# EAGLE library part XC3S{50,100,200}A-FT256 (library kmod-xilinx)
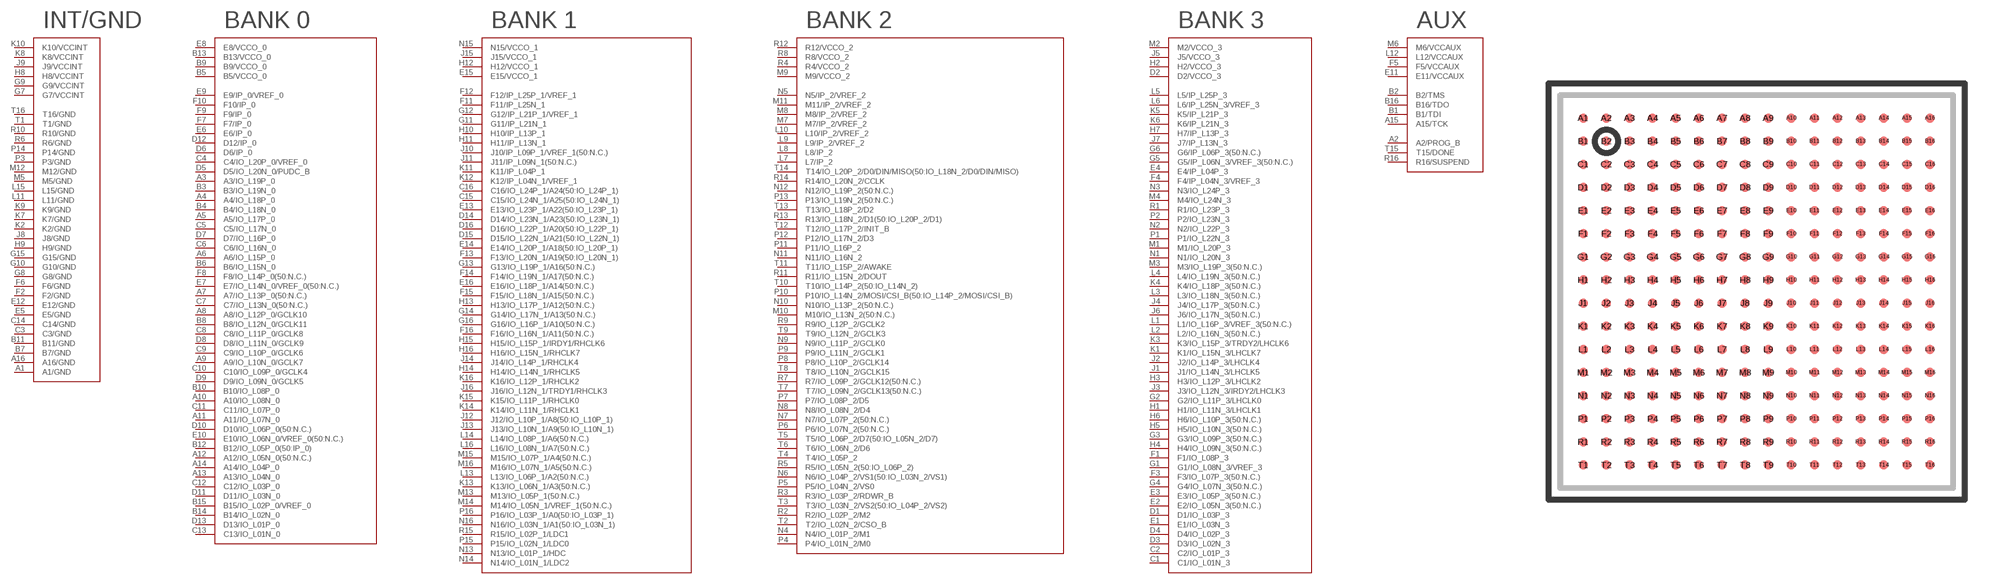
[diagram p4: symbol with the pads of XILINX_FT256; footprint XILINX_FT256]

Designator prefix -

## XC3S{50,100,200}A-FT256  [XILINX_FT256]
A1  A1/GND
A2  A2/PROG_B
A3  A3/IO_L19P_0
A4  A4/IO_L18P_0
A5  A5/IO_L17P_0
A6  A6/IO_L15P_0
A7  A7/IO_L13P_0(50:N.C.)
A8  A8/IO_L12P_0/GCLK10
A9  A9/IO_L10N_0/GCLK7
A10  A10/IO_L08N_0
A11  A11/IO_L07N_0
A12  A12/IO_L05N_0(50:N.C.)
A13  A13/IO_L04N_0
A14  A14/IO_L04P_0
A15  A15/TCK
A16  A16/GND
B1  B1/TDI
B2  B2/TMS
B3  B3/IO_L19N_0
B4  B4/IO_L18N_0
B5  B5/VCCO_0
B6  B6/IO_L15N_0
B7  B7/GND
B8  B8/IO_L12N_0/GCLK11
B9  B9/VCCO_0
B10  B10/IO_L08P_0
B11  B11/GND
B12  B12/IO_L05P_0(50:IP_0)
B13  B13/VCCO_0
B14  B14/IO_L02N_0
B15  B15/IO_L02P_0/VREF_0
B16  B16/TDO
C1  C1/IO_L01N_3
C2  C2/IO_L01P_3
C3  C3/GND
C4  C4/IO_L20P_0/VREF_0
C5  C5/IO_L17N_0
C6  C6/IO_L16N_0
C7  C7/IO_L13N_0(50:N.C.)
C8  C8/IO_L11P_0/GCLK8
C9  C9/IO_L10P_0/GCLK6
C10  C10/IO_L09P_0/GCLK4
C11  C11/IO_L07P_0
C12  C12/IO_L03P_0
C13  C13/IO_L01N_0
C14  C14/GND
C15  C15/IO_L24N_1/A25(50:IO_L24N_1)
C16  C16/IO_L24P_1/A24(50:IO_L24P_1)
D1  D1/IO_L03P_3
D2  D2/VCCO_3
D3  D3/IO_L02N_3
D4  D4/IO_L02P_3
D5  D5/IO_L20N_0/PUDC_B
D6  D6/IP_0
D7  D7/IO_L16P_0
D8  D8/IO_L11N_0/GCLK9
D9  D9/IO_L09N_0/GCLK5
D10  D10/IO_L06P_0(50:N.C.)
D11  D11/IO_L03N_0
D12  D12/IP_0
D13  D13/IO_L01P_0
D14  D14/IO_L23N_1/A23(50:IO_L23N_1)
D15  D15/IO_L22N_1/A21(50:IO_L22N_1)
D16  D16/IO_L22P_1/A20(50:IO_L22P_1)
E1  E1/IO_L03N_3
E2  E2/IO_L05N_3(50:N.C.)
E3  E3/IO_L05P_3(50:N.C.)
E4  E4/IP_L04P_3
E5  E5/GND
E6  E6/IP_0
E7  E7/IO_L14N_0/VREF_0(50:N.C.)
E8  E8/VCCO_0
E9  E9/IP_0/VREF_0
E10  E10/IO_L06N_0/VREF_0(50:N.C.)
E11  E11/VCCAUX
E12  E12/GND
E13  E13/IO_L23P_1/A22(50:IO_L23P_1)
E14  E14/IO_L20P_1/A18(50:IO_L20P_1)
E15  E15/VCCO_1
E16  E16/IO_L18P_1/A14(50:N.C.)
F1  F1/IO_L08P_3
F2  F2/GND
F3  F3/IO_L07P_3(50:N.C.)
F4  F4/IP_L04N_3/VREF_3
F5  F5/VCCAUX
F6  F6/GND
F7  F7/IP_0
F8  F8/IO_L14P_0(50:N.C.)
F9  F9/IP_0
F10  F10/IP_0
F11  F11/IP_L25N_1
F12  F12/IP_L25P_1/VREF_1
F13  F13/IO_L20N_1/A19(50:IO_L20N_1)
F14  F14/IO_L19N_1/A17(50:N.C.)
F15  F15/IO_L18N_1/A15(50:N.C.)
F16  F16/IO_L16N_1/A11(50:N.C.)
G1  G1/IO_L08N_3/VREF_3
G2  G2/IO_L11P_3/LHCLK0
G3  G3/IO_L09P_3(50:N.C.)
G4  G4/IO_L07N_3(50:N.C.)
G5  G5/IP_L06N_3/VREF_3(50:N.C.)
G6  G6/IP_L06P_3(50:N.C.)
G7  G7/VCCINT
G8  G8/GND
G9  G9/VCCINT
G10  G10/GND
G11  G11/IP_L21N_1
G12  G12/IP_L21P_1/VREF_1
G13  G13/IO_L19P_1/A16(50:N.C.)
G14  G14/IO_L17N_1/A13(50:N.C.)
G15  G15/GND
G16  G16/IO_L16P_1/A10(50:N.C.)
H1  H1/IO_L11N_3/LHCLK1
H2  H2/VCCO_3
H3  H3/IO_L12P_3/LHCLK2
H4  H4/IO_L09N_3(50:N.C.)
H5  H5/IO_L10N_3(50:N.C.)
H6  H6/IO_L10P_3(50:N.C.)
H7  H7/IP_L13P_3
H8  H8/VCCINT
H9  H9/GND
H10  H10/IP_L13P_1
H11  H11/IP_L13N_1
H12  H12/VCCO_1
H13  H13/IO_L17P_1/A12(50:N.C.)
H14  H14/IO_L14N_1/RHCLK5
H15  H15/IO_L15P_1/IRDY1/RHCLK6
H16  H16/IO_L15N_1/RHCLK7
J1  J1/IO_L14N_3/LHCLK5
J2  J2/IO_L14P_3/LHCLK4
J3  J3/IO_L12N_3/IRDY2/LHCLK3
J4  J4/IO_L17P_3(50:N.C.)
J5  J5/VCCO_3
J6  J6/IO_L17N_3(50:N.C.)
J7  J7/IP_L13N_3
J8  J8/GND
J9  J9/VCCINT
J10  J10/IP_L09P_1/VREF_1(50:N.C.)
J11  J11/IP_L09N_1(50:N.C.)
J12  J12/IO_L10P_1/A8(50:IO_L10P_1)
J13  J13/IO_L10N_1/A9(50:IO_L10N_1)
J14  J14/IO_L14P_1/RHCLK4
J15  J15/VCCO_1
J16  J16/IO_L12N_1/TRDY1/RHCLK3
K1  K1/IO_L15N_3/LHCLK7
K2  K2/GND
K3  K3/IO_L15P_3/TRDY2/LHCLK6
K4  K4/IO_L18P_3(50:N.C.)
K5  K5/IP_L21P_3
K6  K6/IP_L21N_3
K7  K7/GND
K8  K8/VCCINT
K9  K9/GND
K10  K10/VCCINT
K11  K11/IP_L04P_1
K12  K12/IP_L04N_1/VREF_1
K13  K13/IO_L06N_1/A3(50:N.C.)
K14  K14/IO_L11N_1/RHCLK1
K15  K15/IO_L11P_1/RHCLK0
K16  K16/IO_L12P_1/RHCLK2
L1  L1/IO_L16P_3/VREF_3(50:N.C.)
L2  L2/IO_L16N_3(50:N.C.)
L3  L3/IO_L18N_3(50:N.C.)
L4  L4/IO_L19N_3(50:N.C.)
L5  L5/IP_L25P_3
L6  L6/IP_L25N_3/VREF_3
L7  L7/IP_2
L8  L8/IP_2
L9  L9/IP_2/VREF_2
L10  L10/IP_2/VREF_2
L11  L11/GND
L12  L12/VCCAUX
L13  L13/IO_L06P_1/A2(50:N.C.)
L14  L14/IO_L08P_1/A6(50:N.C.)
L15  L15/GND
L16  L16/IO_L08N_1/A7(50:N.C.)
M1  M1/IO_L20P_3
M2  M2/VCCO_3
M3  M3/IO_L19P_3(50:N.C.)
M4  M4/IO_L24N_3
M5  M5/GND
M6  M6/VCCAUX
M7  M7/IP_2/VREF_2
M8  M8/IP_2/VREF_2
M9  M9/VCCO_2
M10  M10/IO_L13N_2(50:N.C.)
M11  M11/IP_2/VREF_2
M12  M12/GND
M13  M13/IO_L05P_1(50:N.C.)
M14  M14/IO_L05N_1/VREF_1(50:N.C.)
M15  M15/IO_L07P_1/A4(50:N.C.)
M16  M16/IO_L07N_1/A5(50:N.C.)
N1  N1/IO_L20N_3
N2  N2/IO_L22P_3
N3  N3/IO_L24P_3
N4  N4/IO_L01P_2/M1
N5  N5/IP_2/VREF_2
N6  N6/IO_L04P_2/VS1(50:IO_L03N_2/VS1)
N7  N7/IO_L07P_2(50:N.C.)
N8  N8/IO_L08N_2/D4
N9  N9/IO_L11P_2/GCLK0
N10  N10/IO_L13P_2(50:N.C.)
N11  N11/IO_L16N_2
N12  N12/IO_L19P_2(50:N.C.)
N13  N13/IO_L01P_1/HDC
N14  N14/IO_L01N_1/LDC2
N15  N15/VCCO_1
N16  N16/IO_L03N_1/A1(50:IO_L03N_1)
P1  P1/IO_L22N_3
P2  P2/IO_L23N_3
P3  P3/GND
P4  P4/IO_L01N_2/M0
P5  P5/IO_L04N_2/VS0
P6  P6/IO_L07N_2(50:N.C.)
P7  P7/IO_L08P_2/D5
P8  P8/IO_L10P_2/GCLK14
P9  P9/IO_L11N_2/GCLK1
P10  P10/IO_L14N_2/MOSI/CSI_B(50:IO_L14P_2/MOSI/CSI_B)
P11  P11/IO_L16P_2
P12  P12/IO_L17N_2/D3
P13  P13/IO_L19N_2(50:N.C.)
P14  P14/GND
P15  P15/IO_L02N_1/LDC0
P16  P16/IO_L03P_1/A0(50:IO_L03P_1)
R1  R1/IO_L23P_3
R2  R2/IO_L02P_2/M2
R3  R3/IO_L03P_2/RDWR_B
R4  R4/VCCO_2
R5  R5/IO_L05N_2(50:IO_L06P_2)
R6  R6/GND
R7  R7/IO_L09P_2/GCLK12(50:N.C.)
R8  R8/VCCO_2
R9  R9/IO_L12P_2/GCLK2
R10  R10/GND
R11  R11/IO_L15N_2/DOUT
R12  R12/VCCO_2
R13  R13/IO_L18N_2/D1(50:IO_L20P_2/D1)
R14  R14/IO_L20N_2/CCLK
R15  R15/IO_L02P_1/LDC1
R16  R16/SUSPEND
T1  T1/GND
T2  T2/IO_L02N_2/CSO_B
T3  T3/IO_L03N_2/VS2(50:IO_L04P_2/VS2)
T4  T4/IO_L05P_2
T5  T5/IO_L06P_2/D7(50:IO_L05N_2/D7)
T6  T6/IO_L06N_2/D6
T7  T7/IO_L09N_2/GCLK13(50:N.C.)
T8  T8/IO_L10N_2/GCLK15
T9  T9/IO_L12N_2/GCLK3
T10  T10/IO_L14P_2(50:IO_L14N_2)
T11  T11/IO_L15P_2/AWAKE
T12  T12/IO_L17P_2/INIT_B
T13  T13/IO_L18P_2/D2
T14  T14/IO_L20P_2/D0/DIN/MISO(50:IO_L18N_2/D0/DIN/MISO)
T15  T15/DONE
T16  T16/GND

## Footprint XILINX_FT256 (pad centres in mm)
Xilinx 1.0mm-pitch 256-pin BGA From here <http://www.xilinx.com/support/documentation/user_guides/ug112.pdf#page=88>
smd 0.4 x 0.4: A1 -7.5,7.5; A2 -6.5,7.5; A3 -5.5,7.5; A4 -4.5,7.5; A5 -3.5,7.5; A6 -2.5,7.5; A7 -1.5,7.5; A8 -0.5,7.5; A9 0.5,7.5; A10 1.5,7.5; A11 2.5,7.5; A12 3.5,7.5; A13 4.5,7.5; A14 5.5,7.5; A15 6.5,7.5; A16 7.5,7.5; B1 -7.5,6.5; B2 -6.5,6.5; B3 -5.5,6.5; B4 -4.5,6.5; B5 -3.5,6.5; B6 -2.5,6.5; B7 -1.5,6.5; B8 -0.5,6.5; B9 0.5,6.5; B10 1.5,6.5; B11 2.5,6.5; B12 3.5,6.5; B13 4.5,6.5; B14 5.5,6.5; B15 6.5,6.5; B16 7.5,6.5; C1 -7.5,5.5; C2 -6.5,5.5; C3 -5.5,5.5; C4 -4.5,5.5; C5 -3.5,5.5; C6 -2.5,5.5; C7 -1.5,5.5; C8 -0.5,5.5; C9 0.5,5.5; C10 1.5,5.5; C11 2.5,5.5; C12 3.5,5.5; C13 4.5,5.5; C14 5.5,5.5; C15 6.5,5.5; C16 7.5,5.5; D1 -7.5,4.5; D2 -6.5,4.5; D3 -5.5,4.5; D4 -4.5,4.5; D5 -3.5,4.5; D6 -2.5,4.5; D7 -1.5,4.5; D8 -0.5,4.5; D9 0.5,4.5; D10 1.5,4.5; D11 2.5,4.5; D12 3.5,4.5; D13 4.5,4.5; D14 5.5,4.5; D15 6.5,4.5; D16 7.5,4.5; E1 -7.5,3.5; E2 -6.5,3.5; E3 -5.5,3.5; E4 -4.5,3.5; E5 -3.5,3.5; E6 -2.5,3.5; E7 -1.5,3.5; E8 -0.5,3.5; E9 0.5,3.5; E10 1.5,3.5; E11 2.5,3.5; E12 3.5,3.5; E13 4.5,3.5; E14 5.5,3.5; E15 6.5,3.5; E16 7.5,3.5; F1 -7.5,2.5; F2 -6.5,2.5; F3 -5.5,2.5; F4 -4.5,2.5; F5 -3.5,2.5; F6 -2.5,2.5; F7 -1.5,2.5; F8 -0.5,2.5; F9 0.5,2.5; F10 1.5,2.5; F11 2.5,2.5; F12 3.5,2.5; F13 4.5,2.5; F14 5.5,2.5; F15 6.5,2.5; F16 7.5,2.5; G1 -7.5,1.5; G2 -6.5,1.5; G3 -5.5,1.5; G4 -4.5,1.5; G5 -3.5,1.5; G6 -2.5,1.5; G7 -1.5,1.5; G8 -0.5,1.5; G9 0.5,1.5; G10 1.5,1.5; G11 2.5,1.5; G12 3.5,1.5; G13 4.5,1.5; G14 5.5,1.5; G15 6.5,1.5; G16 7.5,1.5; H1 -7.5,0.5; H2 -6.5,0.5; H3 -5.5,0.5; H4 -4.5,0.5; H5 -3.5,0.5; H6 -2.5,0.5; H7 -1.5,0.5; H8 -0.5,0.5; H9 0.5,0.5; H10 1.5,0.5; H11 2.5,0.5; H12 3.5,0.5; H13 4.5,0.5; H14 5.5,0.5; H15 6.5,0.5; H16 7.5,0.5; J1 -7.5,-0.5; J2 -6.5,-0.5; J3 -5.5,-0.5; J4 -4.5,-0.5; J5 -3.5,-0.5; J6 -2.5,-0.5; J7 -1.5,-0.5; J8 -0.5,-0.5; J9 0.5,-0.5; J10 1.5,-0.5; J11 2.5,-0.5; J12 3.5,-0.5; J13 4.5,-0.5; J14 5.5,-0.5; J15 6.5,-0.5; J16 7.5,-0.5; K1 -7.5,-1.5; K2 -6.5,-1.5; K3 -5.5,-1.5; K4 -4.5,-1.5; K5 -3.5,-1.5; K6 -2.5,-1.5; K7 -1.5,-1.5; K8 -0.5,-1.5; K9 0.5,-1.5; K10 1.5,-1.5; K11 2.5,-1.5; K12 3.5,-1.5; K13 4.5,-1.5; K14 5.5,-1.5; K15 6.5,-1.5; K16 7.5,-1.5; L1 -7.5,-2.5; L2 -6.5,-2.5; L3 -5.5,-2.5; L4 -4.5,-2.5; L5 -3.5,-2.5; L6 -2.5,-2.5; L7 -1.5,-2.5; L8 -0.5,-2.5; L9 0.5,-2.5; L10 1.5,-2.5; L11 2.5,-2.5; L12 3.5,-2.5; L13 4.5,-2.5; L14 5.5,-2.5; L15 6.5,-2.5; L16 7.5,-2.5; M1 -7.5,-3.5; M2 -6.5,-3.5; M3 -5.5,-3.5; M4 -4.5,-3.5; M5 -3.5,-3.5; M6 -2.5,-3.5; M7 -1.5,-3.5; M8 -0.5,-3.5; M9 0.5,-3.5; M10 1.5,-3.5; M11 2.5,-3.5; M12 3.5,-3.5; M13 4.5,-3.5; M14 5.5,-3.5; M15 6.5,-3.5; M16 7.5,-3.5; N1 -7.5,-4.5; N2 -6.5,-4.5; N3 -5.5,-4.5; N4 -4.5,-4.5; N5 -3.5,-4.5; N6 -2.5,-4.5; N7 -1.5,-4.5; N8 -0.5,-4.5; N9 0.5,-4.5; N10 1.5,-4.5; N11 2.5,-4.5; N12 3.5,-4.5; N13 4.5,-4.5; N14 5.5,-4.5; N15 6.5,-4.5; N16 7.5,-4.5; P1 -7.5,-5.5; P2 -6.5,-5.5; P3 -5.5,-5.5; P4 -4.5,-5.5; P5 -3.5,-5.5; P6 -2.5,-5.5; P7 -1.5,-5.5; P8 -0.5,-5.5; P9 0.5,-5.5; P10 1.5,-5.5; P11 2.5,-5.5; P12 3.5,-5.5; P13 4.5,-5.5; P14 5.5,-5.5; P15 6.5,-5.5; P16 7.5,-5.5; R1 -7.5,-6.5; R2 -6.5,-6.5; R3 -5.5,-6.5; R4 -4.5,-6.5; R5 -3.5,-6.5; R6 -2.5,-6.5; R7 -1.5,-6.5; R8 -0.5,-6.5; R9 0.5,-6.5; R10 1.5,-6.5; R11 2.5,-6.5; R12 3.5,-6.5; R13 4.5,-6.5; R14 5.5,-6.5; R15 6.5,-6.5; R16 7.5,-6.5; T1 -7.5,-7.5; T2 -6.5,-7.5; T3 -5.5,-7.5; T4 -4.5,-7.5; T5 -3.5,-7.5; T6 -2.5,-7.5; T7 -1.5,-7.5; T8 -0.5,-7.5; T9 0.5,-7.5; T10 1.5,-7.5; T11 2.5,-7.5; T12 3.5,-7.5; T13 4.5,-7.5; T14 5.5,-7.5; T15 6.5,-7.5; T16 7.5,-7.5